# Altium schematic symbol library LM78M05_5V_0A5.Schlib: 1 symbol
Pins are listed as number, name and electrical type; pins without a type are passive.

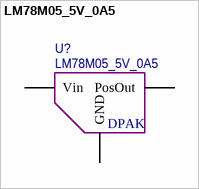
[diagram p0: symbol LM78M05_5V_0A5]

## LM78M05_5V_0A5
designator U?
pins: 1 Vin, 3 PosOut, 4 GND
text: DPAK